# Altium footprint library USB.PcbLib: 22 footprints (part 1 of 2)
Each footprint in its own frame and in the unit in brackets; x right, y up, seen from the top. Pads: shape width x height; smd on the part's side, far side on the other; paste and mask are expansions set on the pad; w line width, h text height; cw(c..) or ccw(c..) is an arc to the next point about the centre after c.
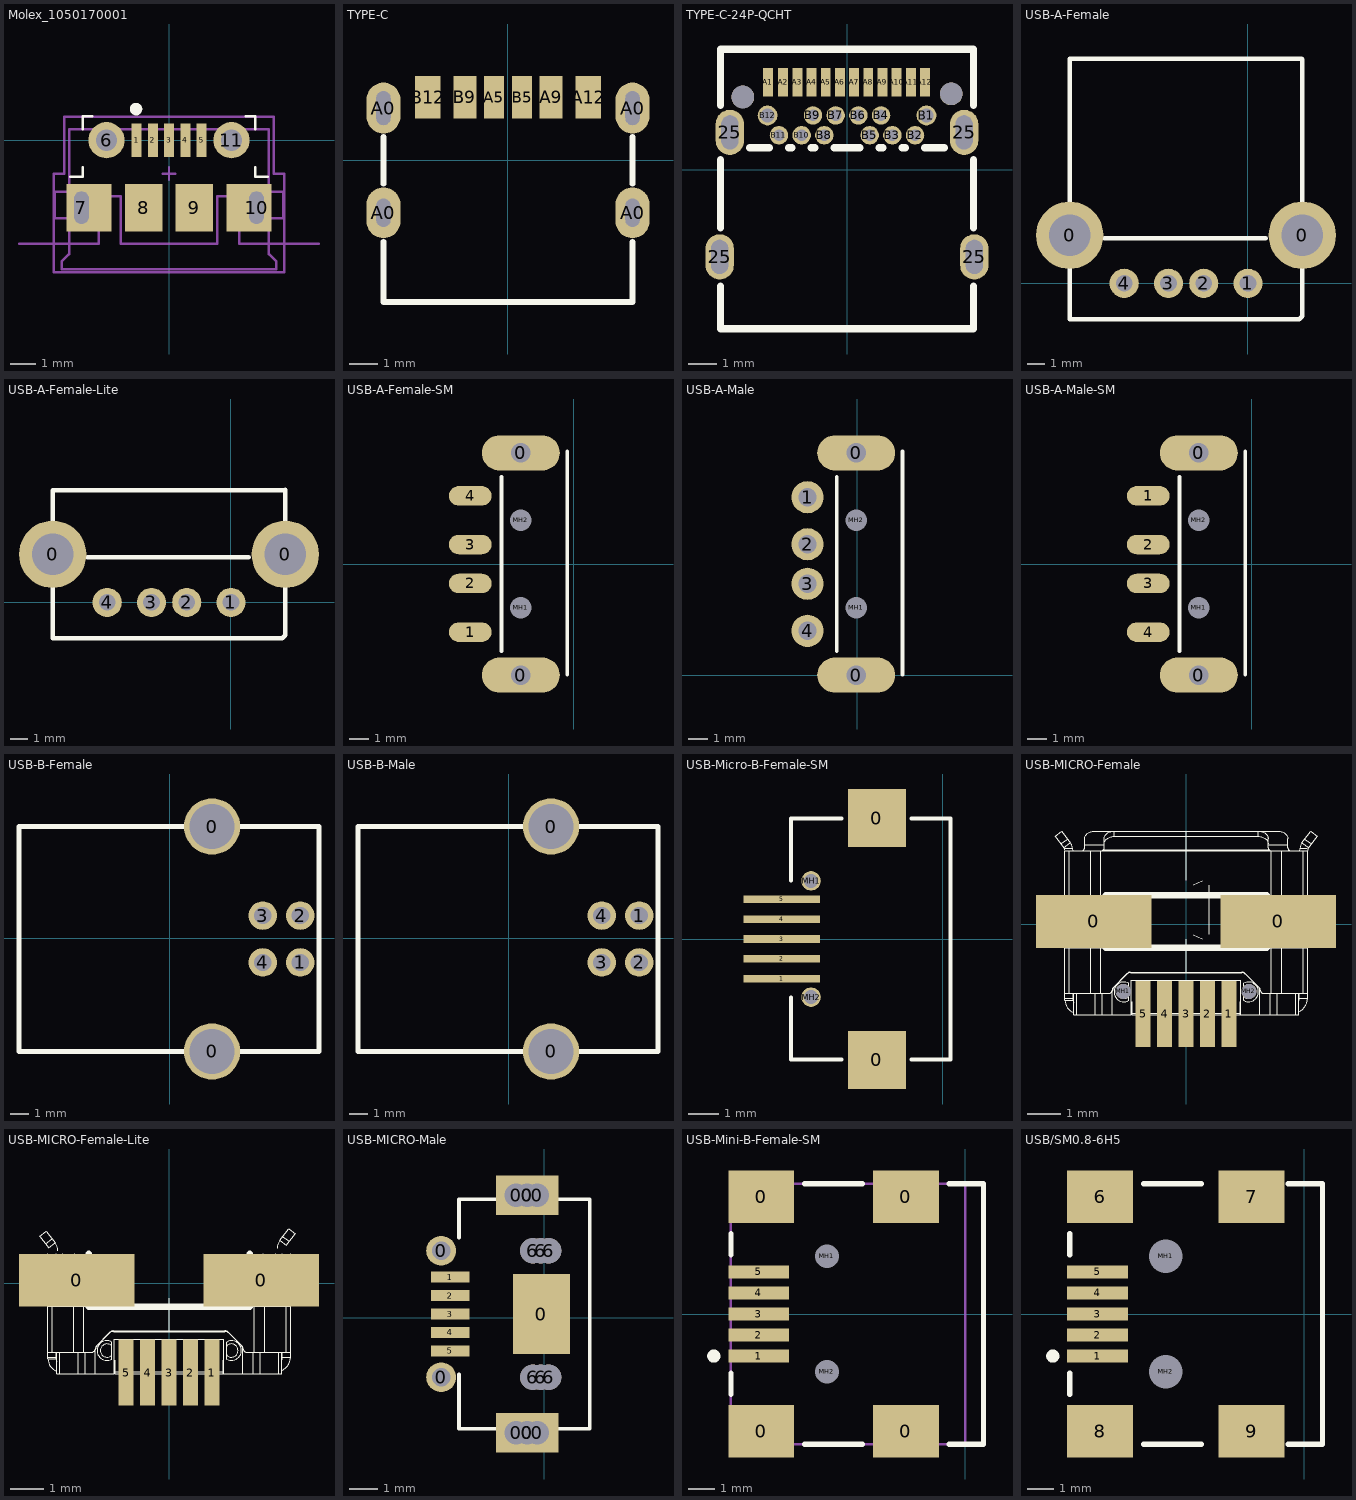
[diagram p0: the footprints below, top view; thin cyan lines are the x and y axes]

## Molex_1050170001 [mm] "USB Micro-B Connector"
height 2.667
pads (11):
  rect 0.4x1.35 smd: 1(-1.3,0) 2(-0.65,0) 3(0,0) 4(0.65,0) 5(1.3,0)
  round 1.45 hole 0.85: 6(-2.5,0) 11(2.5,0)
  rect 1.8x1.9 hole 0.6 slot 1.3 at 90 deg copper offset 0.3,0: 7(-3.5,-2.7)
  rect 1.5x1.9 smd: 8(-1,-2.7) 9(1,-2.7)
  rect 1.8x1.9 hole 0.6 slot 1.3 at 90 deg copper offset -0.3,0: 10(3.5,-2.7)
Top Overlay:
  circle w0.25: c-1.319,1.245 r0.125
  lines w0.1: -3.953,-1.465 -3.445,-1.465 -3.445,-1.084 ; -3.445,0.44 -3.445,0.948 -3.064,0.948 ; 3.064,0.948 3.445,0.948 3.445,0.44 ; 3.445,-1.084 3.445,-1.465 3.953,-1.465
Mechanical 1:
  lines w0.1: -6,-4.137 -2.82,-4.137 -2.82,-2.238 -1.92,-2.238 -1.92,-4.137 0,-4.137 1.92,-4.137 1.92,-2.238 2.82,-2.238 2.82,-4.137 6,-4.137
  text "Board edge" at 5.588,-4.005 h0.2
Mechanical 13:
  lines w0.1: -4,0.442 -4,-2.058 -4.572,-2.058 -4.572,-3.116 -4,-3.116 -4,-4.558 -4.3,-4.858 -4.3,-5.158 4.3,-5.158 4.3,-4.858 4,-4.558 4,-3.116 4.572,-3.116 4.572,-2.058 4,-2.058 4,0.442 ; -4,0.442 4,0.442 ; -4,0.442 4,0.442
Mechanical 15:
  lines w0.1: -4.2,0.937 4.2,0.937 ; -4.2,0.94 -4.2,-1.338 -4.6,-1.338 -4.6,-4.137 -4.6,-5.275 4.6,-5.275 4.6,-4.137 4.6,-1.338 4.2,-1.338 4.2,0.94 ; -0.254,-1.338 0.254,-1.338 ; 0,-1.592 0,-1.084
3D body: height 2.58, standoff -0.72, extent -4.1,-5.207 4.1,0.193

## TYPE-C [mm] "USB-C No Data Signal"
pads (10):
  oval 1.2x1.8 hole 0.5 slot 1 at 90 deg: A0(-4.4,-1.85) A0(4.4,-1.85)
  oval 1.2x1.8 hole 0.5 slot 1.2 at 90 deg: A0(-4.4,1.85) A0(4.4,1.85)
  rect 0.7x1.5 smd: A5(-0.5,2.231) B5(0.5,2.231)
  rect 0.8x1.5 smd: A9(1.52,2.231) B9(-1.52,2.231)
  rect 0.9x1.5 smd: A12(2.83,2.231) B12(-2.83,2.231)
Top Overlay:
  lines w0.2: -4.4,-2.87 -4.4,-5 4.4,-5 4.4,-2.88 ; -4.4,-0.83 -4.4,0.83 ; 4.4,-0.82 4.4,0.83

## TYPE-C-24P-QCHT [mm] "SZLCSC C456013"
pads (30):
  oval 1x1.599 hole 0.6 slot 1.2 at 90 deg: 25(-4.49,-3.082) 25(4.13,1.307)
  oval 1x1.599 hole 0.6 slot 1.2 at 90 deg copper offset 0,0: 25(-4.13,1.307) 25(4.49,-3.082)
  rect 0.35x1.01 smd: A1(-2.79,3.082) A2(-2.25,3.082) A3(-1.75,3.082) A4(-1.25,3.082) A5(-0.75,3.082) A6(-0.25,3.082) A7(0.25,3.082) A8(0.75,3.082) A9(1.25,3.082) A10(1.75,3.082) A11(2.25,3.082) A12(2.75,3.082)
  round 0.7 hole 0.5: B1(2.8,1.907) B12(-2.8,1.907)
  round 0.65 hole 0.4: B2(2.4,1.207) B3(1.6,1.207) B4(1.2,1.907) B5(0.8,1.207) B6(0.4,1.907) B7(-0.4,1.907) B8(-0.8,1.207) B9(-1.2,1.907) B10(-1.6,1.207) B11(-2.4,1.207)
  round 0.8 hole 0.8 unplated: ""(-3.675,2.558) ""(3.675,2.667)
Top Overlay:
  lines w0.254: -4.46,-4.113 -4.46,-5.612 4.46,-5.612 4.46,-4.113 ; -4.46,-2.052 -4.46,0.355 ; -4.46,2.26 -4.46,4.238 4.46,4.238 4.46,2.26 ; -3.44,0.766 -2.737,0.766 ; -2.063,0.766 -1.937,0.766 ; -1.263,0.766 -1.137,0.766 ; -0.463,0.766 0.463,0.766 ; 1.137,0.766 1.263,0.766 ; 1.937,0.766 2.063,0.766 ; 2.737,0.766 3.44,0.766 ; 4.46,-2.052 4.46,0.355

## USB-A-Female [mil]
pads (6):
  round 150 hole 93: 0(-397,107) 0(121,107)
  round 65 hole 37: 1(0,0) 2(-98.5,0) 3(-177,0) 4(-275.6,0)
Top Overlay:
  lines w10: -320,100 40,100 ; -397,-80 -397,107 -397,500 120,500 121,499 121,107 121,-73 114,-80 -397,-80

## USB-A-Female-Lite [mil]
pads (6):
  round 150 hole 93: 0(-397,107) 0(121,107)
  round 65 hole 37: 1(0,0) 2(-98.5,0) 3(-177,0) 4(-275.6,0)
Top Overlay:
  lines w10: -320,100 40,100 ; -397,-80 114,-80 121,-73 121,107 121,251 120,250 -397,250 -397,107 -397,-80

## USB-A-Female-SM [mm]
height 5.08
pads (8):
  oval 4x1.8 hole 1: 0(-2.709,-5.7) 0(-2.709,5.7)
  oval 2.2x1 smd: 1(-5.309,-3.5) 2(-5.309,-1) 3(-5.309,1) 4(-5.309,3.5)
  round 0.8 hole 1.1 unplated: MH1(-2.709,-2.25) MH2(-2.709,2.25)
Top Overlay:
  lines w0.2: -3.709,-4.475 -3.709,4.475 ; -0.33,-5.664 -0.33,5.766
Mechanical 1:
  lines w1: -3.459,-5.7 -1.959,-5.7 ; -3.459,5.7 -1.959,5.7

## USB-A-Male [mil]
pads (8):
  oval 157.48x70.87 hole 39.37: 0(-1.65,0.61) 0(-1.65,449.43)
  round 65 hole 37: 1(-100,360) 2(-100,265) 3(-100,185) 4(-100,90)
  round 31.5 hole 43.31 unplated: MH1(-1.65,136.43) MH2(-1.65,313.6)
Top Overlay:
  lines w7.87: -41.02,48.83 -41.02,401.2 ; 92,2 92,452
Mechanical 1:
  lines w39.37: -31.18,0.61 27.87,0.61 ; -31.18,449.43 27.87,449.43

## USB-A-Male-SM [mm]
height 5.08
pads (8):
  oval 4x1.8 hole 1: 0(-2.709,-5.7) 0(-2.709,5.7)
  oval 2.2x1 smd: 1(-5.309,3.5) 2(-5.309,1) 3(-5.309,-1) 4(-5.309,-3.5)
  round 0.8 hole 1.1 unplated: MH1(-2.709,-2.25) MH2(-2.709,2.25)
Top Overlay:
  lines w0.2: -3.709,-4.475 -3.709,4.475 ; -0.33,-5.664 -0.33,5.766
Mechanical 1:
  lines w1: -3.459,-5.7 -1.959,-5.7 ; -3.459,5.7 -1.959,5.7

## USB-B-Female [mm]
pads (6):
  round 3 hole 2.4: 0(2.257,-6.027) 0(2.257,5.973)
  round 1.524 hole 0.92: 1(6.957,-1.277) 2(6.957,1.223) 3(4.957,1.223) 4(4.957,-1.277)
Top Overlay:
  lines w0.254: -8.043,-6.027 -8.043,5.973 7.957,5.973 7.957,-6.027 -8.043,-6.027

## USB-B-Male [mm]
pads (6):
  round 3 hole 2.4: 0(2.257,-6.027) 0(2.257,5.973)
  round 1.524 hole 0.92: 1(6.957,1.223) 2(6.957,-1.277) 3(4.957,-1.277) 4(4.957,1.223)
Top Overlay:
  lines w0.254: -8.043,-6.027 -8.043,5.973 7.957,5.973 7.957,-6.027 -8.043,-6.027

## USB-Micro-B-Female-SM [mm]
pads (9):
  rect 1.9x1.9 smd: 0(-2.15,-3.95) 0(-2.15,3.95)
  rect 2.5x0.25 smd: 1(-5.258,-1.3) 2(-5.258,-0.65) 3(-5.258,0) 4(-5.258,0.65) 5(-5.258,1.3)
  round 0.635 hole 0.457 unplated: MH1(-4.3,1.9) MH2(-4.3,-1.9)
Top Overlay:
  lines w0.127: -4.953,-1.905 -4.953,-3.937 -3.302,-3.937 ; -4.953,1.905 -4.953,3.937 -3.302,3.937 ; -1.016,-3.937 0.254,-3.937 0.254,3.937 -1.016,3.937

## USB-MICRO-Female [mm] "Connector; USB2.0, Type B, SM; 5 Position; Right Angle"
height 3.9
pads (9):
  rect 3.5x1.6 smd: 0(-2.802,0.088) 0(2.798,0.088)
  rect 0.45x2 smd: 1(1.298,-2.714) 2(0.648,-2.714) 3(-0.002,-2.714) 4(-0.652,-2.714) 5(-1.302,-2.714)
  round 0.457 hole 0.457 unplated: MH1(-1.905,-2.032) MH2(1.905,-2.032)
Top Overlay:
  drawing of 299 lines, arcs and shapes, not listed

## USB-MICRO-Female-Lite [mm] "Connector; USB2.0, Type B, SM; 5 Position; Right Angle"
height 3.9
pads (7):
  rect 3.5x1.6 smd: 0(-2.802,0.088) 0(2.798,0.088)
  rect 0.45x2 smd: 1(1.298,-2.714) 2(0.648,-2.714) 3(-0.002,-2.714) 4(-0.652,-2.714) 5(-1.302,-2.714)
Top Overlay:
  drawing of 182 lines, arcs and shapes, not listed

## USB-MICRO-Male [mm]
pads (22):
  round 1.05 hole 0.65: 0(-3.627,-2.098) 0(-3.627,2.352)
  round 1.4 hole 0.83: 0(-0.987,-4.048) 0(-0.987,4.302) 0(-0.602,-4.048) 0(-0.602,4.302) 0(-0.247,-4.048) 0(-0.247,4.302)
  rect 2.2x1.4 hole 0.83: 0(-0.602,-4.048) 0(-0.602,4.302)
  rect 2x2.8 smd: 0(-0.102,0.127)
  rect 1.35x0.4 smd: 1(-3.302,1.427) 2(-3.302,0.777) 3(-3.302,0.127) 4(-3.302,-0.523) 5(-3.302,-1.173)
  round 0.9 hole 0.9 unplated: 6(-0.402,-2.098) 6(-0.402,2.352) 6(-0.127,-2.098) 6(-0.127,2.352) 6(0.148,-2.098) 6(0.148,2.352)
Top Overlay:
  lines w0.127: -3.002,-1.986 -3.002,-3.902 1.598,-3.902 1.598,4.156 -3.002,4.156 -3.002,2.805

## USB-Mini-B-Female-SM [mm] "Connector; USB2.0, Type B, SM; 5 Position; Right Angle"
height 3.9
pads (11):
  rect 2.5x2 smd: 0(-7.75,-4.45) 0(-7.75,4.45) 0(-2.25,-4.45) 0(-2.25,4.45)
  rect 2.3x0.5 smd: 1(-7.85,-1.6) 2(-7.85,-0.8) 3(-7.85,0) 4(-7.85,0.8) 5(-7.85,1.6)
  round 0.6 hole 0.9 unplated: MH1(-5.25,2.2) MH2(-5.25,-2.2)
Top Overlay:
  circle w0.25: c-9.55,-1.6 r0.125
  lines w0.2: -8.9,-3.05 -8.9,-2.25 ; -8.9,2.25 -8.9,3.05 ; -6.1,-4.95 -3.9,-4.95 ; -6.1,4.95 -3.9,4.95 ; -0.6,-4.95 0.7,-4.95 0.7,4.95 -0.6,4.95
Mechanical 1:
  lines w0.1: 0,-4.95 0,4.95
  text "PCB Edge" at 0.432,-4.036 h0.25
Mechanical 13:
  lines w0.1: -8.9,-4.95 -8.9,4.95 0.7,4.95 0.7,-4.95 -8.9,-4.95
3D body: height 3.9, standoff 0, extent -8.9,-4.95 0.7,4.95

## USB/SM0.8-6H5 [mm]
pads (11):
  rect 2.3x0.5 smd: 1(-7.85,-1.6) 2(-7.85,-0.8) 3(-7.85,0) 4(-7.85,0.8) 5(-7.85,1.6)
  rect 2.5x2 smd: 6(-7.75,4.45) 7(-1.996,4.45) 8(-7.75,-4.45) 9(-1.996,-4.45)
  round 0.6 hole 1.27 unplated: MH1(-5.25,2.2) MH2(-5.25,-2.2)
Top Overlay:
  circle w0.25: c-9.55,-1.6 r0.125
  lines w0.2: -8.9,-3.05 -8.9,-2.25 ; -8.9,2.25 -8.9,3.05 ; -6.1,-4.95 -3.9,-4.95 ; -6.1,4.95 -3.9,4.95 ; -0.6,-4.95 0.7,-4.95 0.7,4.95 -0.6,4.95